# EAGLE library part RESISTOR_ARRAY_BUSSED (library 0_skookumsynth_passive)
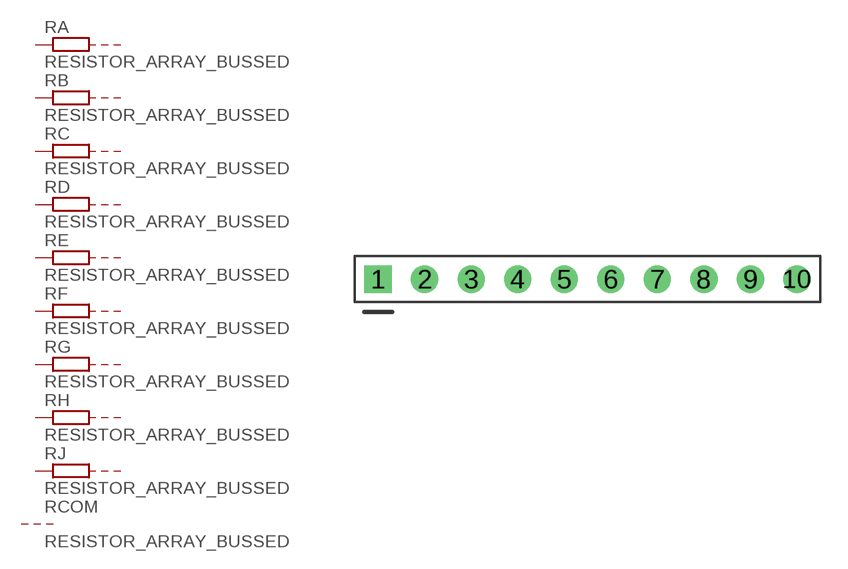
[diagram p0: symbol with the pads of 4600X_10; footprint 4600X_10]

Designator prefix R; gates COM=SINGLE_PIN A=RESISTOR_OPEN_END B=RESISTOR_OPEN_END C=RESISTOR_OPEN_END D=RESISTOR_OPEN_END E=RESISTOR_OPEN_END F=RESISTOR_OPEN_END G=RESISTOR_OPEN_END H=RESISTOR_OPEN_END J=RESISTOR_OPEN_END

## RESISTOR_ARRAY_BUSSED  [4600X_10]
1  COM:2  pas
2  A:1  pas
3  B:1  pas
4  C:1  pas
5  D:1  pas
6  E:1  pas
7  F:1  pas
8  G:1  pas
9  H:1  pas
10  J:1  pas

## Footprint 4600X_10 (pad centres in mm)
drill 0.8 pad 1.5 square: 1 -11.43,0
drill 0.8 pad 1.5: 2 -8.89,0; 3 -6.35,0; 4 -3.81,0; 5 -1.27,0; 6 1.27,0; 7 3.81,0; 8 6.35,0; 9 8.89,0; 10 11.43,0